# EAGLE library part DS2482 (library anasoft)
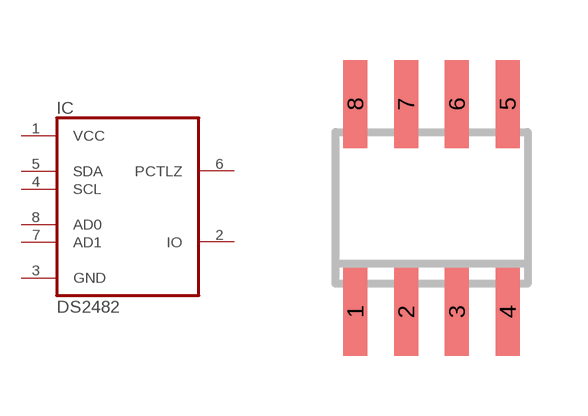
[diagram p14: symbol with the pads of SO-08; footprint SO-08]

Designator prefix IC

## DS2482S  [SO-08]
1  VCC  pwr
2  IO
3  GND  pwr
4  SCL  in
5  SDA
6  PCTLZ  out
7  AD1  in
8  AD0  in

## Footprint SO-08 (pad centres in mm)
Small Outline Narrow Plastic Gull Wing 150-mil body, package type SN
smd 0.6 x 2.2: 1 -1.905,-2.6; 2 -0.635,-2.6; 3 0.635,-2.6; 4 1.905,-2.6; 5 1.905,2.6; 6 0.635,2.6; 7 -0.635,2.6; 8 -1.905,2.6